# Altium schematic symbol library JoyStick.SchLib: 2 symbols
Pins are listed as number, name and electrical type; pins without a type are passive.

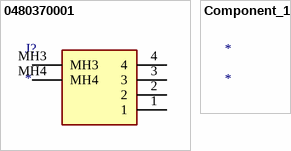
[diagram p0: symbols 0480370001 to Component_1]

## 0480370001
designator J?
Connector; Manufacturer_Name: Molex; Manufacturer_Part_Number: 0480370001; Description: Conn USB 2.0 Type A PL 4 POS 2mm/2.5mm Solder RA Thru-Hole 4 Terminal 1 Port Tray; Datasheet Link: https://www.molex.com/pdm_docs/sd/480370001_sd.pdf; Height: 4.6mm; Arrow Part Number: 0480370001; Arrow Price/Stock: https://www.arrow.com/en/products/0480370001/molex
footprint 0480370001
pins: 1, 2, 3, 4, MH3, MH4

## Component_1
designator *